# Altium footprint library LED_HOME.PcbLib: 8 footprints
Each footprint in its own frame and in the unit in brackets; x right, y up, seen from the top. Pads: shape width x height; smd on the part's side, far side on the other; paste and mask are expansions set on the pad; w line width, h text height; cw(c..) or ccw(c..) is an arc to the next point about the centre after c.
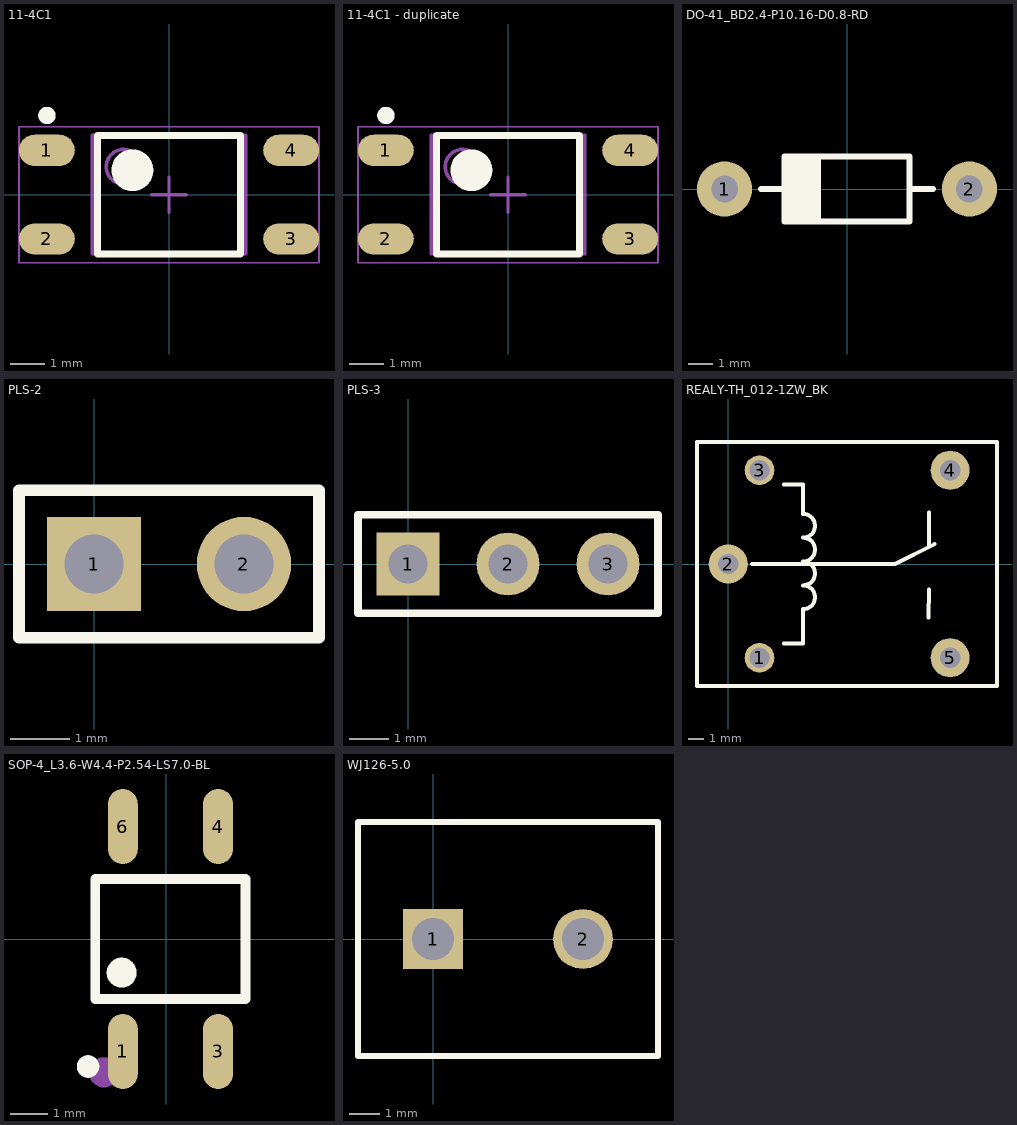
[diagram p0: the footprints below, top view; thin cyan lines are the x and y axes]

## 11-4C1 [mm]
height 2.7
pads (4):
  oval 1.6x0.9 smd: 1(-3.5,1.27) 2(-3.5,-1.27) 3(3.5,-1.27) 4(3.5,1.27)
Top Overlay:
  circle w0.25: c-3.5,2.27 r0.125
  circle w0.6: c-1.05,0.7 r0.3
  lines w0.2: -2.05,-1.7 -2.05,1.7 2.05,1.7 2.05,-1.7 -2.05,-1.7
Mechanical 13:
  circle w0.1: c-1.3,0.8 r0.5
  lines w0.1: -2.2,-1.7 -2.2,1.7 2.2,1.7 2.2,-1.7 -2.2,-1.7
Mechanical 15:
  lines w0.05: -4.3,-1.95 -4.3,1.95 4.3,1.95 4.3,-1.95 -4.3,-1.95
  lines w0.1: -0.5,0 0.5,0 ; 0,-0.5 0,0.5
3D body: height 2.7, standoff 0.1, extent -2.2,-1.7 2.2,1.7

## 11-4C1 - duplicate [mm]
height 2.7
pads (4):
  oval 1.6x0.9 smd: 1(-3.5,1.27) 2(-3.5,-1.27) 3(3.5,-1.27) 4(3.5,1.27)
Top Overlay:
  circle w0.6: c-1.05,0.7 r0.3
  circle w0.25: c-3.5,2.27 r0.125
  lines w0.2: -2.05,-1.7 2.05,-1.7 2.05,1.7 -2.05,1.7 -2.05,-1.7
Mechanical 13:
  circle w0.1: c-1.3,0.8 r0.5
  lines w0.1: -2.2,-1.7 2.2,-1.7 2.2,1.7 -2.2,1.7 -2.2,-1.7
Mechanical 15:
  lines w0.05: -4.3,-1.95 4.3,-1.95 4.3,1.95 -4.3,1.95 -4.3,-1.95
  lines w0.1: -0.5,0 0.5,0 ; 0,-0.5 0,0.5
3D body: height 2.7, standoff 0.1, extent -2.2,-1.7 2.2,1.7

## DO-41_BD2.4-P10.16-D0.8-RD [mil] "DO-41"
height 106.3
pads (2):
  round 90 hole 43.31: 1(-200,0) 2(200,0)
Top Overlay:
  lines w10: -140.16,0 -102.36,0 ; -94.49,-53.15 -94.49,53.15 ; -86.61,-53.15 -86.61,53.15 ; -78.74,-53.15 -78.74,53.15 ; -70.87,-53.15 -70.87,53.15 ; -62.99,-53.15 -62.99,53.15 ; -55.12,-53.15 -55.12,53.15 ; -47.24,-53.15 -47.24,53.15 ; 102.36,0 140.16,0 ; -102.36,-53.15 -102.36,53.15 102.36,53.15 102.36,-53.15 -102.36,-53.15
Mechanical 16:
  text ".Designator" at 0,0 h39.37
3D body "DO-41.STEP": height 107.48, standoff -103.15, extent -216.93,-52.76 216.93,52.76

## PLS-2 [mm]
pads (2):
  rect 1.6x1.6 hole 1: 1(0,0)
  round 1.6 hole 1: 2(2.54,0)
Top Overlay:
  lines w0.2: -1.27,-1.25 3.81,-1.25 3.81,1.25 -1.27,1.25 -1.27,-1.25

## PLS-3 [mm]
pads (3):
  rect 1.6x1.6 hole 1: 1(0,0)
  round 1.6 hole 1: 2(2.54,0) 3(5.08,0)
Top Overlay:
  lines w0.2: -1.27,-1.25 -1.27,1.25 6.35,1.25 6.35,-1.25 -1.27,-1.25

## REALY-TH_012-1ZW_BK [mm] "µҐµ¶Л«Н¶"
pads (5):
  round 1.9 hole 1.3: 1(2,-6) 3(2,6)
  round 2.5 hole 1.3: 2(0,0) 4(14.2,6) 5(14.2,-6)
Top Overlay:
  lines w0.254: 1.524,0 10.668,0 13.208,1.27 ; 3.556,-5.08 4.794,-5.08 4.794,-2.89 ccw(c4.794,-2.128) 4.794,-1.366 ccw(c4.794,-0.604) 4.794,0.158 ccw(c4.794,0.92) 4.794,1.682 ccw(c4.794,2.444) 4.794,3.206 4.794,5.08 3.556,5.08 ; 12.827,-3.429 12.838,-1.62 ; 12.838,1.174 12.838,3.302 ; -2,-7.8 17.2,-7.8 17.2,7.8 -2,7.8 -2,-7.8
Mechanical 16:
  text ".Designator" at 0,0 h1

## SOP-4_L3.6-W4.4-P2.54-LS7.0-BL [mm]
pads (4):
  oval 0.8x2 smd paste+0 mask+0.051: 1(-1.159,-3) 3(1.381,-3) 4(1.381,3) 6(-1.159,3)
Top Overlay:
  lines w0.254: -1.889,-1.6 -1.889,1.6 2.111,1.6 2.111,-1.6 -1.889,-1.6
  lines w0.3: -2.238,-3.401 ccw(c-2.088,-3.4) -2.238,-3.399
  lines w0.4: -1.39,-0.899 ccw(c-1.19,-0.898) -1.39,-0.897
Mechanical 15:
  circle w0.4: c-1.667,-3.556 r0.2

## WJ126-5.0 [mm]
height 10.2
pads (2):
  rect 2x2 hole 1.4: 1(0,0)
  round 2 hole 1.4: 2(5,0)
Top Overlay:
  lines w0.2: -2.5,-3.9 -2.5,3.9 7.5,3.9 7.5,-3.9 -2.5,-3.9